# Altium schematic symbol library 0ZCG0200FF2B.SchLib: 2 symbols
Pins are listed as number, name and electrical type; pins without a type are passive.

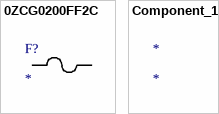
[diagram p0: symbols 0ZCG0200FF2C to Component_1]

## 0ZCG0200FF2C
designator F?
No Description Available; Mfr_Name: Belfuse
footprint 0ZCG_BEL
pins: 1, 2

## Component_1
designator *